# Altium schematic symbol library MCU_NXP_MAC7100.SchLib: 2 symbols
Pins are listed as number, name and electrical type; pins without a type are passive.

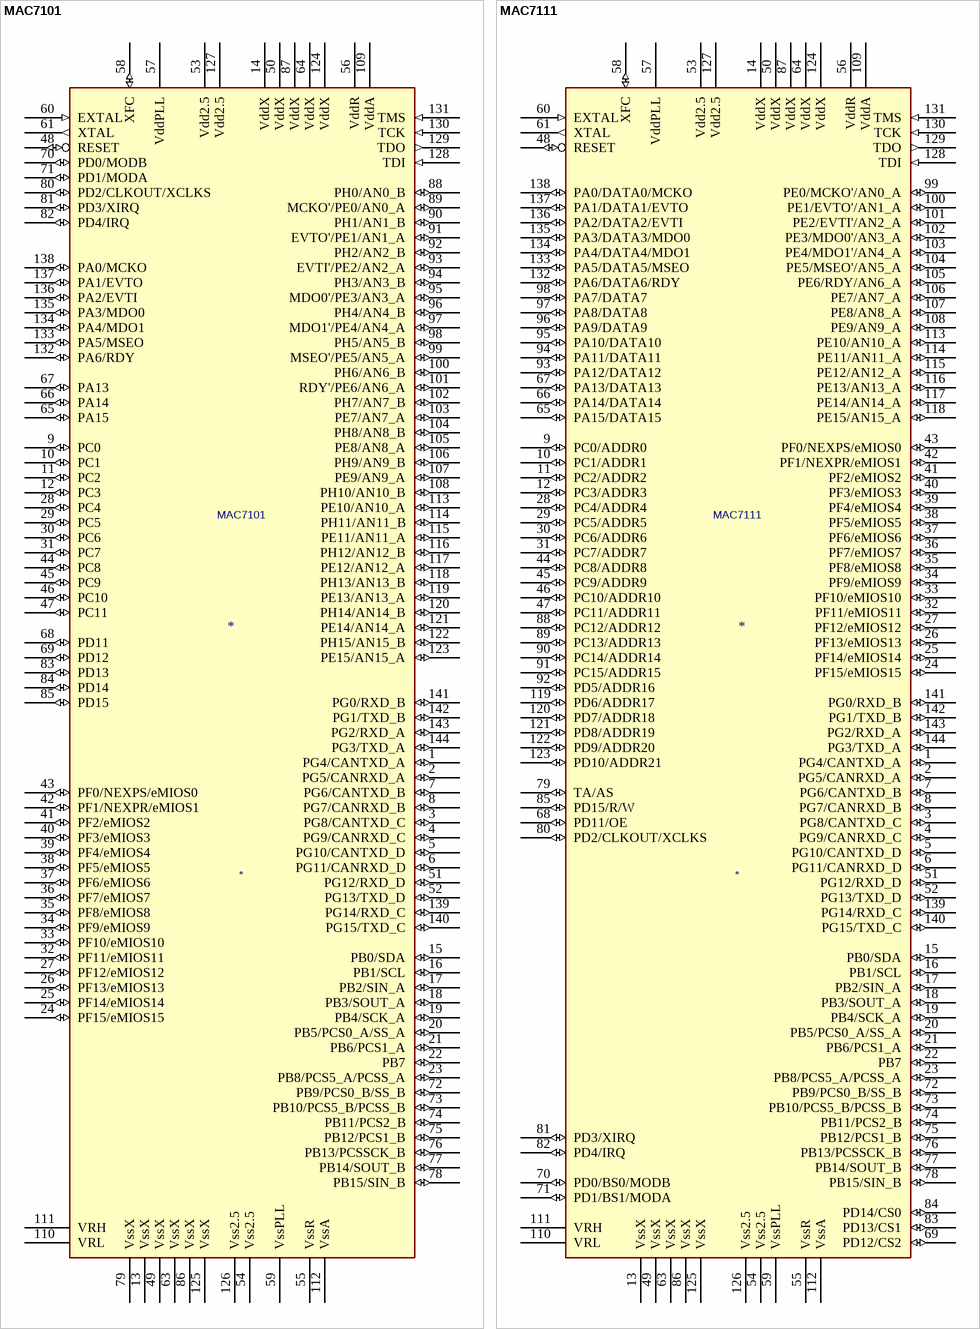
[diagram p0: symbols MAC7101 to MAC7111]

## MAC7101
designator *  value MAC7101
ki_keywords: ARM7TDMI-S MCU; ki_description: Automotive ARM7TDMI-S-based Microcontroller, LQFP-144; ki_fp_filters: LQFP*20x20mm*P0.5mm*; Footprint: Package_QFP:LQFP-144_20x20mm_P0.5mm; Supplier: https://www.nxp.com/docs/en/data-sheet/MAC7100EC.pdf
footprint LQFP-144_20x20mm_P0.5mm
pins: 1 PG4/CANTXD_A (io), 2 PG5/CANRXD_A (io), 3 PG8/CANTXD_C (io), 4 PG9/CANRXD_C (io), 5 PG10/CANTXD_D (io), 6 PG11/CANRXD_D (io), 7 PG6/CANTXD_B (io), 8 PG7/CANRXD_B (io), 9 PC0 (io), 10 PC1 (io), 11 PC2 (io), 12 PC3 (io), 13 VssX (power), 14 VddX (power), 15 PB0/SDA (io), 16 PB1/SCL (io), 17 PB2/SIN_A (io), 18 PB3/SOUT_A (io), 19 PB4/SCK_A (io), 20 PB5/PCS0_A/SS_A (io), 21 PB6/PCS1_A (io), 22 PB7 (io), 23 PB8/PCS5_A/PCSS_A (io), 24 PF15/eMIOS15 (io), 25 PF14/eMIOS14 (io), 26 PF13/eMIOS13 (io), 27 PF12/eMIOS12 (io), 28 PC4 (io), 29 PC5 (io), 30 PC6 (io), 31 PC7 (io), 32 PF11/eMIOS11 (io), 33 PF10/eMIOS10 (io), 34 PF9/eMIOS9 (io), 35 PF8/eMIOS8 (io), 36 PF7/eMIOS7 (io), 37 PF6/eMIOS6 (io), 38 PF5/eMIOS5 (io), 39 PF4/eMIOS4 (io), 40 PF3/eMIOS3 (io), 41 PF2/eMIOS2 (io), 42 PF1/NEXPR/eMIOS1 (io), 43 PF0/NEXPS/eMIOS0 (io), 44 PC8 (io), 45 PC9 (io), 46 PC10 (io), 47 PC11 (io), 48 RESET (io), 49 VssX (power), 50 VddX (power), 51 PG12/RXD_D (io), 52 PG13/TXD_D (io), 53 Vdd2.5, 54 Vss2.5, 55 VssR (power), 56 VddR (power), 57 VddPLL, 58 XFC (io), 59 VssPLL, 60 EXTAL (in), 61 XTAL (out), 63 VssX (power), 64 VddX (power), 65 PA15 (io), 66 PA14 (io), 67 PA13 (io), 68 PD11 (io), 69 PD12 (io), 70 PD0/MODB (io), 71 PD1/MODA (io), 72 PB9/PCS0_B/SS_B (io), 73 PB10/PCS5_B/PCSS_B (io), 74 PB11/PCS2_B (io), 75 PB12/PCS1_B (io), 76 PB13/PCSSCK_B (io), 77 PB14/SOUT_B (io), 78 PB15/SIN_B (io), 79 VssX (power), 80 PD2/CLKOUT/XCLKS (io), 81 PD3/XIRQ (io), 82 PD4/IRQ (io), 83 PD13 (io), 84 PD14 (io), 85 PD15 (io), 86 VssX (power), 87 VddX (power), 88 PH0/AN0_B (io), 89 MCKO'/PE0/AN0_A (io), 90 PH1/AN1_B (io), 91 EVTO'/PE1/AN1_A (io), 92 PH2/AN2_B (io), 93 EVTI'/PE2/AN2_A (io), 94 PH3/AN3_B (io), 95 MDO0'/PE3/AN3_A (io), 96 PH4/AN4_B (io), 97 MDO1'/PE4/AN4_A (io), 98 PH5/AN5_B (io), 99 MSEO'/PE5/AN5_A (io), 100 PH6/AN6_B (io), 101 RDY'/PE6/AN6_A (io), 102 PH7/AN7_B (io), 103 PE7/AN7_A (io), 104 PH8/AN8_B (io), 105 PE8/AN8_A (io), 106 PH9/AN9_B (io), 107 PE9/AN9_A (io), 108 PH10/AN10_B (io), 109 VddA (power), 110 VRL, 111 VRH, 112 VssA (power), 113 PE10/AN10_A (io), 114 PH11/AN11_B (io), 115 PE11/AN11_A (io), 116 PH12/AN12_B (io), 117 PE12/AN12_A (io), 118 PH13/AN13_B (io), 119 PE13/AN13_A (io), 120 PH14/AN14_B (io), 121 PE14/AN14_A (io), 122 PH15/AN15_B (io), 123 PE15/AN15_A (io), 124 VddX (power), 125 VssX (power), 126 Vss2.5 (power), 127 Vdd2.5 (power), 128 TDI (in), 129 TDO (out), 130 TCK (in), 131 TMS (in), 132 PA6/RDY (io), 133 PA5/MSEO (io), 134 PA4/MDO1 (io), 135 PA3/MDO0 (io), 136 PA2/EVTI (io), 137 PA1/EVTO (io), 138 PA0/MCKO (io), 139 PG14/RXD_C (io), 140 PG15/TXD_C (io), 141 PG0/RXD_B (io), 142 PG1/TXD_B (io), 143 PG2/RXD_A (io), 144 PG3/TXD_A (io)

## MAC7111
designator *  value MAC7111
ki_keywords: ARM7TDMI-S MCU; ki_description: Automotive ARM7TDMI-S-based Microcontroller, LQFP-144; ki_fp_filters: LQFP*20x20mm*P0.5mm*; Footprint: Package_QFP:LQFP-144_20x20mm_P0.5mm; Supplier: https://www.nxp.com/docs/en/data-sheet/MAC7100EC.pdf
footprint LQFP-144_20x20mm_P0.5mm
pins: 1 PG4/CANTXD_A (io), 2 PG5/CANRXD_A (io), 3 PG8/CANTXD_C (io), 4 PG9/CANRXD_C (io), 5 PG10/CANTXD_D (io), 6 PG11/CANRXD_D (io), 7 PG6/CANTXD_B (io), 8 PG7/CANRXD_B (io), 9 PC0/ADDR0 (io), 10 PC1/ADDR1 (io), 11 PC2/ADDR2 (io), 12 PC3/ADDR3 (io), 13 VssX (power), 14 VddX (power), 15 PB0/SDA (io), 16 PB1/SCL (io), 17 PB2/SIN_A (io), 18 PB3/SOUT_A (io), 19 PB4/SCK_A (io), 20 PB5/PCS0_A/SS_A (io), 21 PB6/PCS1_A (io), 22 PB7 (io), 23 PB8/PCS5_A/PCSS_A (io), 24 PF15/eMIOS15 (io), 25 PF14/eMIOS14 (io), 26 PF13/eMIOS13 (io), 27 PF12/eMIOS12 (io), 28 PC4/ADDR4 (io), 29 PC5/ADDR5 (io), 30 PC6/ADDR6 (io), 31 PC7/ADDR7 (io), 32 PF11/eMIOS11 (io), 33 PF10/eMIOS10 (io), 34 PF9/eMIOS9 (io), 35 PF8/eMIOS8 (io), 36 PF7/eMIOS7 (io), 37 PF6/eMIOS6 (io), 38 PF5/eMIOS5 (io), 39 PF4/eMIOS4 (io), 40 PF3/eMIOS3 (io), 41 PF2/eMIOS2 (io), 42 PF1/NEXPR/eMIOS1 (io), 43 PF0/NEXPS/eMIOS0 (io), 44 PC8/ADDR8 (io), 45 PC9/ADDR9 (io), 46 PC10/ADDR10 (io), 47 PC11/ADDR11 (io), 48 RESET (io), 49 VssX (power), 50 VddX (power), 51 PG12/RXD_D (io), 52 PG13/TXD_D (io), 53 Vdd2.5, 54 Vss2.5 (power), 55 VssR (power), 56 VddR (power), 57 VddPLL, 58 XFC (io), 59 VssPLL, 60 EXTAL (in), 61 XTAL (out), 63 VssX (power), 64 VddX (power), 65 PA15/DATA15 (io), 66 PA14/DATA14 (io), 67 PA13/DATA13 (io), 68 PD11/OE (io), 69 PD12/CS2 (io), 70 PD0/BS0/MODB (io), 71 PD1/BS1/MODA (io), 72 PB9/PCS0_B/SS_B (io), 73 PB10/PCS5_B/PCSS_B (io), 74 PB11/PCS2_B (io), 75 PB12/PCS1_B (io), 76 PB13/PCSSCK_B (io), 77 PB14/SOUT_B (io), 78 PB15/SIN_B (io), 79 TA/AS (io), 80 PD2/CLKOUT/XCLKS (io), 81 PD3/XIRQ (io), 82 PD4/IRQ (io), 83 PD13/CS1 (io), 84 PD14/CS0 (io), 85 PD15/R/W (io), 86 VssX (power), 87 VddX (power), 88 PC12/ADDR12 (io), 89 PC13/ADDR13 (io), 90 PC14/ADDR14 (io), 91 PC15/ADDR15 (io), 92 PD5/ADDR16 (io), 93 PA12/DATA12 (io), 94 PA11/DATA11 (io), 95 PA10/DATA10 (io), 96 PA9/DATA9 (io), 97 PA8/DATA8 (io), 98 PA7/DATA7 (io), 99 PE0/MCKO'/AN0_A (io), 100 PE1/EVTO'/AN1_A (io), 101 PE2/EVTI'/AN2_A (io), 102 PE3/MDO0'/AN3_A (io), 103 PE4/MDO1'/AN4_A (io), 104 PE5/MSEO'/AN5_A (io), 105 PE6/RDY/AN6_A (io), 106 PE7/AN7_A (io), 107 PE8/AN8_A (io), 108 PE9/AN9_A (io), 109 VddA (power), 110 VRL, 111 VRH, 112 VssA (power), 113 PE10/AN10_A (io), 114 PE11/AN11_A (io), 115 PE12/AN12_A (io), 116 PE13/AN13_A (io), 117 PE14/AN14_A (io), 118 PE15/AN15_A (io), 119 PD6/ADDR17 (io), 120 PD7/ADDR18 (io), 121 PD8/ADDR19 (io), 122 PD9/ADDR20 (io), 123 PD10/ADDR21 (io), 124 VddX (power), 125 VssX (power), 126 Vss2.5 (power), 127 Vdd2.5 (power), 128 TDI (in), 129 TDO (out), 130 TCK (in), 131 TMS (in), 132 PA6/DATA6/RDY (io), 133 PA5/DATA5/MSEO (io), 134 PA4/DATA4/MDO1 (io), 135 PA3/DATA3/MDO0 (io), 136 PA2/DATA2/EVTI (io), 137 PA1/DATA1/EVTO (io), 138 PA0/DATA0/MCKO (io), 139 PG14/RXD_C (io), 140 PG15/TXD_C (io), 141 PG0/RXD_B (io), 142 PG1/TXD_B (io), 143 PG2/RXD_A (io), 144 PG3/TXD_A (io)